# Altium footprint library Capacitors.PcbLib: 28 footprints (part 2 of 2)
Each footprint in its own frame and in the unit in brackets; x right, y up, seen from the top. Pads: shape width x height; smd on the part's side, far side on the other; paste and mask are expansions set on the pad; w line width, h text height; cw(c..) or ccw(c..) is an arc to the next point about the centre after c.
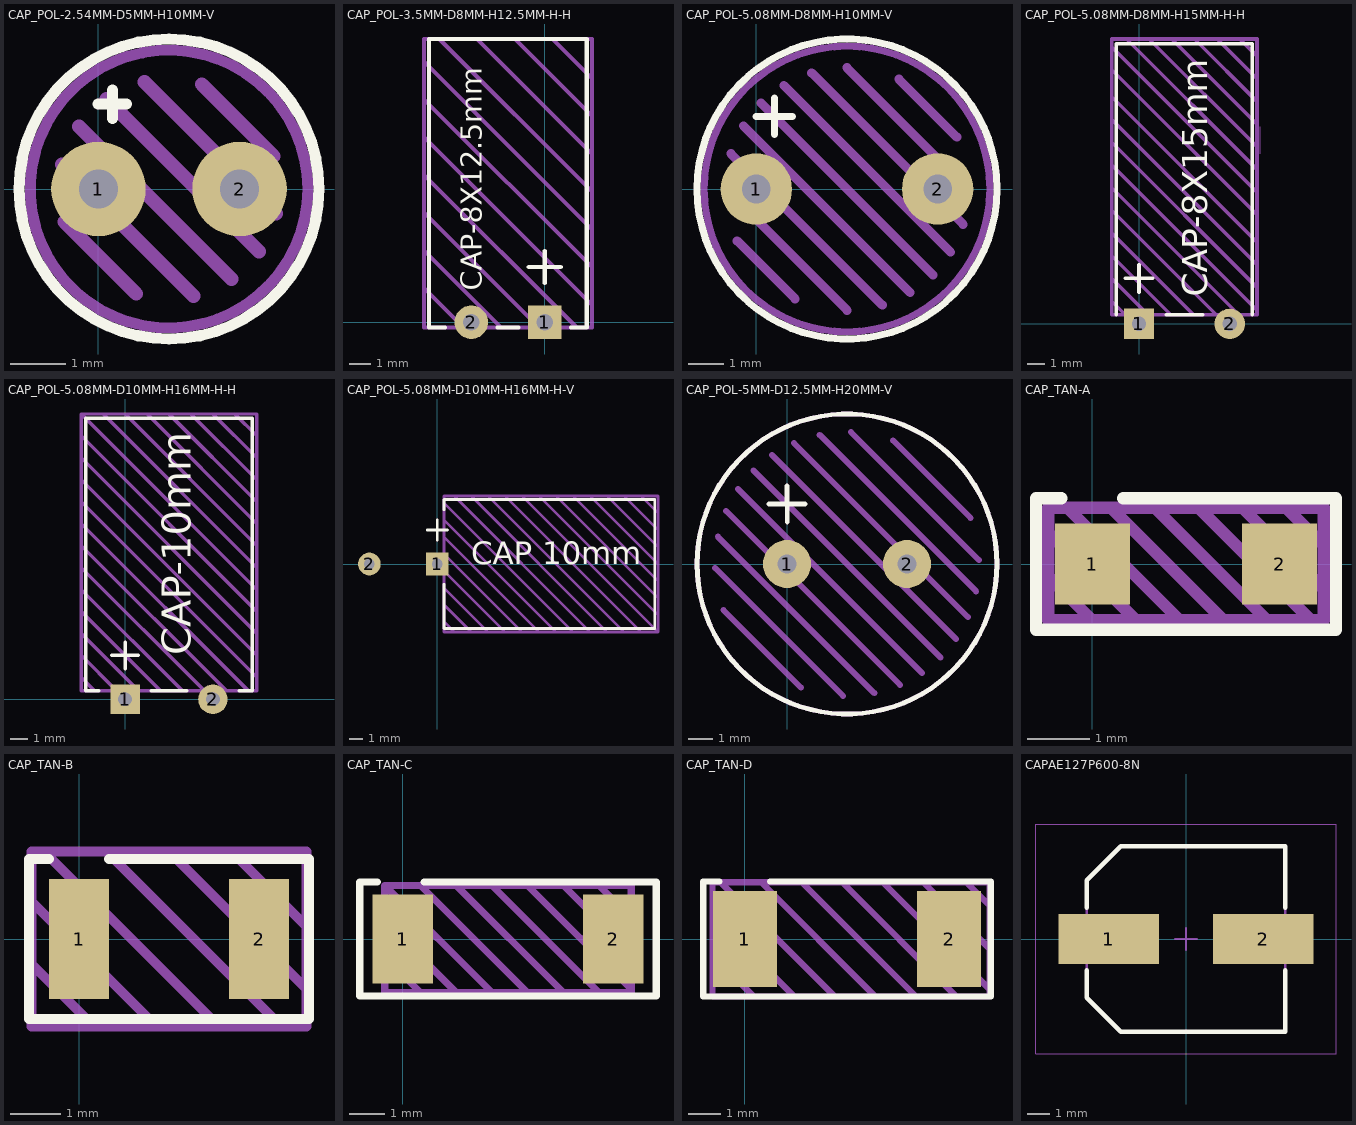
[diagram p1: the footprints below, top view; thin cyan lines are the x and y axes]

## CAP_POL-2.54MM-D5MM-H10MM-V [mm]
pads (2):
  round 1.7 hole 0.7: 1(0,0) 2(2.54,0)
Top Overlay:
  circle w0.2: c1.27,0 r2.7
  lines w0.2: -0.004,1.528 0.504,1.528 ; 0.25,1.274 0.25,1.782
Top Draw:
  circle w0.2: c1.27,0 r2.5
  lines w0.25: -0.655,0.44 1.71,-1.925 ; -0.615,-0.59 0.68,-1.885 ; -0.352,1.127 2.397,-1.622 ; 0.143,1.622 2.892,-1.127 ; 0.83,1.925 3.195,-0.44 ; 1.86,1.885 3.155,0.59
Top Info:
  text "'.Comment'" at -2.032,-4.318 h1
3D body: height 11, standoff 10.95, extent -1.016,-2.286 3.556,2.286
3D body: height 2.54, standoff 1.27, extent 3.848,-0.127 3.874,0.127
3D body: height 7.62, standoff 6.35, extent 3.848,-0.127 3.874,0.127
3D body: height 5.08, standoff 3.81, extent 3.848,-0.127 3.874,0.127
3D body: height 10.16, standoff 8.89, extent 3.848,-0.127 3.874,0.127
3D body: height 0.79, standoff -1.78, extent -0.254,-0.254 0.254,0.254
3D body: height 0.79, standoff -1.78, extent 2.286,-0.254 2.794,0.254
3D body: height 10.92, standoff 0.76, extent -1.27,-2.54 3.81,2.54
3D body: height 10.92, standoff 0.89, extent 3.81,-0.762 3.836,0.762
3D body: height 10.97, standoff 10.9, extent -1.03,-2.3 3.57,2.3

## CAP_POL-3.5MM-D8MM-H12.5MM-H-H [mm]
pads (2):
  rect 1.6x1.6 hole 0.8: 1(0,0)
  round 1.6 hole 0.8: 2(-3.5,0)
Top Overlay:
  lines w0.2: -4.75,-0.25 -5.51,-0.25 -5.51,13.5 2,13.5 2,-0.25 1.25,-0.25 ; -2.25,-0.25 -1.25,-0.25 ; -0.762,2.631 0.762,2.631 ; 0,1.869 0,2.631 0,3.393
  text "CAP-8X12.5mm" at -3,1.5 h1
Top Draw:
  lines w0.2: -5.75,1.625 -3.875,-0.25 ; -5.75,3.425 -2.075,-0.25 ; -5.75,5.225 -0.275,-0.25 ; -5.75,7.025 1.525,-0.25 ; -5.75,8.825 2.25,0.825 ; -5.75,10.625 2.25,2.625 ; -5.75,12.425 2.25,4.425 ; -5.025,13.5 2.25,6.225 ; -3.225,13.5 2.25,8.025 ; -1.425,13.5 2.25,9.825 ; 0.375,13.5 2.25,11.625 ; -5.75,-0.25 -5.75,13.5 2.25,13.5 2.25,-0.25 -5.75,-0.25
Top Info:
  text "'.Comment'" at -7.061,-2.629 h1.25
3D body "CAPPRD350W60D800H1250-HL-000-300-100.STEP": height 8.01, standoff -2.99, extent -5.748,-0.298 2.25,13.5

## CAP_POL-5.08MM-D8MM-H10MM-V [mm]
pads (2):
  round 2 hole 0.8: 1(0,0) 2(5.08,0)
Top Overlay:
  circle w0.2: c2.54,0 r4.2
  lines w0.2: 0.508,2.54 0.508,1.524 0.508,2.032 0,2.032 1.016,2.032
Top Draw:
  circle w0.2: c2.54,0 r4
  lines w0.25: -0.86,0.006 2.546,-3.4 ; -0.713,0.99 3.53,-3.253 ; -0.535,-1.45 1.09,-3.075 ; -0.362,1.771 4.311,-2.902 ; 0.136,2.404 4.944,-2.404 ; 0.769,2.902 5.442,-1.771 ; 1.55,3.253 5.793,-0.99 ; 2.534,3.4 5.94,-0.006 ; 3.99,3.075 5.615,1.45
Top Info:
  text "'.Comment'" at -1.778,-5.715 h1
3D body: height 2.54, standoff 1.27, extent 6.642,-0.127 6.668,0.127
3D body: height 7.62, standoff 6.35, extent 6.642,-0.127 6.668,0.127
3D body: height 5.08, standoff 3.81, extent 6.642,-0.127 6.668,0.127
3D body: height 12.7, standoff 11.43, extent 6.642,-0.127 6.668,0.127
3D body: height 10.16, standoff 8.89, extent 6.642,-0.127 6.668,0.127
3D body: height 0.79, standoff -1.78, extent -0.254,-0.254 0.254,0.254
3D body: height 0.79, standoff -1.78, extent 4.826,-0.254 5.334,0.254
3D body: height 13.61, standoff 13.56, extent -1.143,-3.683 6.223,3.683
3D body: height 13.46, standoff 0.76, extent -1.524,-4.064 6.604,4.064
3D body: height 13.33, standoff 0.89, extent 6.604,-1.016 6.629,1.016
3D body: height 13.59, standoff 13.44, extent -1.143,-3.683 6.223,3.683

## CAP_POL-5.08MM-D8MM-H15MM-H-H [mm]
pads (2):
  rect 1.7x1.7 hole 0.8: 1(0,0)
  round 1.7 hole 0.8: 2(5.08,0)
Top Overlay:
  lines w0.2: -1.27,0.508 -1.27,15.686 6.35,15.686 6.35,0.508 ; -0.762,2.54 0.762,2.54 ; 0,1.778 0,2.54 0,3.302 ; 1.524,0.508 3.556,0.508
  text "CAP-8X15mm" at 3.81,1.524 h1.4
Top Draw:
  lines w0.025: 6.785,9.529 6.785,11.03
  lines w0.2: -1.524,1.27 -0.762,0.508 ; -1.524,2.54 0.508,0.508 ; -1.524,3.81 1.778,0.508 ; -1.524,5.08 3.048,0.508 ; -1.524,6.35 4.318,0.508 ; -1.524,7.62 5.588,0.508 ; -1.524,8.89 6.604,0.762 ; -1.524,10.16 6.604,2.032 ; -1.524,11.43 6.604,3.302 ; -1.524,12.7 6.604,4.572 ; -1.493,14.193 6.604,6.096 ; -1.493,15.463 6.604,7.366 ; -0.666,15.906 6.604,8.636 ; -0.508,0.508 0.762,0.508 ; 0.604,15.906 6.604,9.906 ; 1.874,15.906 6.604,11.176 ; 2.032,0.508 3.81,0.508 ; 2.54,0.508 0.762,0.508 ; 3.302,0.508 6.604,0.508 ; 4.38,15.94 6.604,13.716 ; 4.572,0.508 6.604,0.508 ; 5.684,15.906 6.604,14.986 ; 0.762,0.508 -1.524,0.508 -1.524,15.94 6.604,15.94 6.604,0.508 ; 3.144,15.906 6.604,12.446 3.144,15.906
Top Info:
  text "'.Comment'" at -1.521,-2.602 h1.25
3D body: height 8, standoff 0, extent -1.46,0.588 6.54,15.588
3D body: height 6.53, standoff 1.47, extent 5.65,0.59 6.55,15.54
3D body: height 4.2, standoff 3.8, extent 6.525,6.003 6.575,9.503
3D body: height 7.7, standoff 3.7, extent 2.54,0.438 5.818,0.738
3D body: height 7.7, standoff 3.7, extent -0.738,0.438 2.54,0.738
3D body: height 4.3, standoff 0.3, extent 2.54,0.438 5.818,0.738
3D body: height 4.3, standoff 0.3, extent -0.738,0.438 2.54,0.738
3D body: height 7.9, standoff 0.1, extent -1.36,15.495 6.44,15.595
3D body: height 7.6, standoff 0.4, extent -1.06,15.41 6.14,15.71
3D body: height 8, standoff 0, extent -1.46,15.25 6.54,15.75
3D body: height 6.54, standoff 1.46, extent 4.729,15.475 6.551,15.775
3D body: height 6.54, standoff 1.46, extent 4.728,0.325 6.55,0.625
3D body: height 4.3, standoff 3.7, extent 4.781,-0.047 5.381,1.223
3D body: height 4.3, standoff 3.7, extent -0.3,-0.3 0.3,0.3
3D body: height 4.3, standoff 3.7, extent 4.78,-0.3 5.38,0.3
3D body: height 4, standoff -1.78, extent -0.3,-0.3 0.3,0.3
3D body: height 4, standoff -1.78, extent 4.78,-0.3 5.38,0.3
3D body: height 4.3, standoff 3.7, extent -0.3,0 0.3,1.27
3D body: height 4.2, standoff 3.8, extent 6.525,1.005 6.575,4.505
3D body: height 8, standoff 0, extent -1.469,0.35 6.531,0.85
3D body: height 4.2, standoff 3.8, extent 6.525,11.033 6.575,14.533

## CAP_POL-5.08MM-D10MM-H16MM-H-H [mm]
pads (2):
  rect 1.7x1.7 hole 0.8: 1(0,0)
  round 1.7 hole 0.8: 2(5.08,0)
Top Overlay:
  lines w0.2: -1.524,0.508 -2.286,0.508 -2.286,16.256 7.366,16.256 7.366,0.508 6.604,0.508 ; -0.762,2.54 0.762,2.54 ; 0,1.778 0,2.54 0,3.302 ; 1.524,0.508 3.556,0.508
  text "CAP-10mm" at 3.81,2.54 h1.7
Top Draw:
  lines w0.2: -2.54,1.27 -1.778,0.508 0,0.508 -0.508,0.508 -2.54,2.54 ; -2.54,3.81 0.762,0.508 2.54,0.508 ; -2.54,5.08 2.032,0.508 3.81,0.508 ; -2.54,6.35 3.302,0.508 5.08,0.508 4.572,0.508 -2.54,7.62 ; -2.54,8.89 5.842,0.508 7.62,0.508 ; -2.54,10.16 7.112,0.508 7.62,0.508 ; -2.54,11.43 7.62,1.27 7.62,0.508 ; -2.54,12.7 7.62,2.54 ; -2.54,13.97 7.62,3.81 7.62,5.08 -2.54,15.24 ; -1.27,16.51 7.62,7.62 ; 0,16.51 7.62,8.89 7.62,6.35 ; 1.27,16.51 7.62,10.16 ; 2.54,16.51 7.62,11.43 7.62,12.7 3.81,16.51 ; 5.08,16.51 7.62,13.97 ; 6.35,16.51 7.62,15.24 ; 7.62,6.985 7.62,7.62 ; -2.54,16.51 7.62,16.51 7.62,16.256 7.62,0.508 ; -2.54,16.51 -2.54,0.508 7.62,0.508 ; -2.54,16.51 7.62,6.35 ; 7.62,6.35 7.62,7.62
Top Info:
  text "'.Comment'" at -2.286,-2.54 h1.25
3D body: height 9, standoff 1, extent -1.46,0.483 6.54,0.783
3D body: height 5.2, standoff 4.8, extent 6.858,0.483 7.645,0.533
3D body: height 5.2, standoff 4.8, extent 7.595,10.16 7.645,15.24
3D body: height 9.5, standoff 0.5, extent -1.96,16.002 7.04,16.256
3D body: height 5.25, standoff 4.75, extent 4.827,-0.047 5.335,1.223
3D body: height 5.25, standoff 4.75, extent -0.254,-0.254 0.254,0.254
3D body: height 5.25, standoff 4.75, extent 4.826,-0.254 5.334,0.254
3D body: height 5, standoff -1.78, extent -0.254,-0.254 0.254,0.254
3D body: height 5, standoff -1.78, extent 4.826,-0.254 5.334,0.254
3D body: height 10, standoff 0, extent -2.46,0.588 7.54,16.088
3D body: height 5.25, standoff 4.75, extent -0.253,0 0.255,1.27
3D body: height 7, standoff 3, extent 7.366,0.588 7.62,16.002
3D body: height 7, standoff 3, extent 6.604,0.508 7.62,0.635
3D body: height 5.3, standoff 4.7, extent -1.524,16.231 6.604,16.281
3D body: height 9, standoff 1, extent 2.24,16.18 2.84,16.28
3D body: height 5.2, standoff 4.8, extent 7.595,0.508 7.645,2.54
3D body: height 5.2, standoff 4.8, extent 7.595,3.81 7.645,8.89

## CAP_POL-5.08MM-D10MM-H16MM-H-V [mm]
pads (2):
  rect 1.7x1.7 hole 0.8: 1(0,0)
  round 1.7 hole 0.8: 2(-5.08,0)
Top Overlay:
  lines w0.2: -0.762,2.54 0,2.54 0.762,2.54 ; 0,1.778 0,3.302 ; 0.508,-1.524 0.508,-4.826 16.256,-4.826 16.256,4.826 0.508,4.826 0.508,4.064
  text "CAP 10mm" at 2.54,0 h1.7
Top Draw:
  lines w0.2: 0.508,0 0.508,-1.778 3.81,-5.08 ; 0.508,1.27 0.508,-0.508 5.08,-5.08 ; 1.27,-5.08 0.508,-4.318 0.508,-2.54 0.508,-3.048 2.54,-5.08 ; 2.54,5.08 12.7,-5.08 ; 6.35,-5.08 0.508,0.762 0.508,2.54 0.508,2.032 7.62,-5.08 ; 6.985,5.08 7.62,5.08 ; 8.89,-5.08 0.508,3.302 0.508,5.08 ; 10.16,-5.08 0.508,4.572 0.508,5.08 ; 10.16,5.08 16.51,-1.27 ; 11.43,-5.08 1.27,5.08 0.508,5.08 ; 13.97,-5.08 3.81,5.08 5.08,5.08 15.24,-5.08 ; 13.97,5.08 16.51,2.54 ; 15.24,5.08 16.51,3.81 ; 16.51,-3.81 7.62,5.08 ; 16.51,-2.54 8.89,5.08 6.35,5.08 ; 16.51,0 11.43,5.08 12.7,5.08 16.51,1.27 ; 0.508,5.08 0.508,-5.08 16.51,-5.08 ; 0.508,5.08 16.256,5.08 16.51,5.08 16.51,-5.08 ; 6.35,5.08 16.51,-5.08 ; 6.35,5.08 7.62,5.08
Top Info:
  text "'.Comment'" at 0.635,-6.858 h1.25
3D body: height 9, standoff 1, extent 0.62,-4 0.92,4
3D body: height 5.2, standoff 4.8, extent 0.657,4.318 0.707,5.106
3D body: height 5.2, standoff 4.8, extent 10.334,5.055 15.414,5.106
3D body: height 9.5, standoff 0.5, extent 16.176,-4.5 16.43,4.5
3D body: height 2.71, standoff 2.21, extent -0.047,-0.253 1.223,0.255
3D body: height 7.75, standoff 7.25, extent -5.334,-0.253 -4.826,0.255
3D body: height 2.71, standoff 2.21, extent -0.254,-0.254 0.254,0.254
3D body: height 7.54, standoff -1.78, extent -5.334,-0.253 -4.826,0.255
3D body: height 2.46, standoff -1.78, extent -0.254,-0.254 0.254,0.254
3D body: height 10, standoff 0, extent 0.762,-5 16.262,5
3D body: height 7.75, standoff 7.25, extent -5.08,-0.253 0.92,0.255
3D body: height 7, standoff 3, extent 0.762,4.826 16.176,5.08
3D body: height 7, standoff 3, extent 0.682,3.81 0.809,5.08
3D body: height 5.3, standoff 4.7, extent 16.405,-4.064 16.455,4.064
3D body: height 9, standoff 1, extent 16.354,-0.3 16.454,0.3
3D body: height 5.2, standoff 4.8, extent 0.682,5.055 2.714,5.106
3D body: height 5.2, standoff 4.8, extent 3.984,5.055 9.064,5.106

## CAP_POL-5MM-D12.5MM-H20MM-V [mm]
pads (2):
  round 2 hole 0.8: 1(0,0) 2(5,0)
Top Overlay:
  circle w0.2: c2.5,0 r6.25
  lines w0.2: -0.75,2.5 0.75,2.5 ; 0,3.25 0.01,1.75
Top Draw:
  circle w0.2: c2.5,0 r6.25
  lines w0.25: -2.998,-0.159 2.341,-5.498 ; -2.881,1.138 3.638,-5.381 ; -2.656,-1.915 0.585,-5.156 ; -2.537,2.209 4.709,-5.037 ; -2.031,3.117 5.617,-4.531 ; -1.389,3.889 6.389,-3.889 ; -0.617,4.531 7.031,-3.117 ; 0.291,5.037 7.537,-2.209 ; 1.362,5.381 7.881,-1.138 ; 2.659,5.498 7.998,0.159 ; 4.415,5.156 7.656,1.915
Top Info:
  text "'.Comment'" at -3.873,-8.475 h1.5
3D body "CAP_POL-5MM-D12.5MM-H20MM-V.STEP": height 20, standoff -3, extent -3.745,-6.249 8.752,6.249

## CAP_TAN-A [mm]
pads (2):
  rect 1.2x1.3 smd: 1(0,0) 2(3,0)
Top Overlay:
  lines w0.2: -0.5,1.05 -0.9,1.05 -0.9,-1.05 3.9,-1.05 3.9,0.65 3.9,1.05 0.5,1.05
Top Draw:
  lines w0.2: -0.7,-0.2 0,-0.9 0.2,-0.9 ; -0.7,0.5 0.7,-0.9 ; -0.4,0.9 1.4,-0.9 1.5,-0.9 ; 0.3,0.9 2.1,-0.9 ; 1,0.9 2.8,-0.9 ; 1.7,0.9 3.5,-0.9 ; 2.4,0.9 3.7,-0.4 ; 3.1,0.9 3.7,0.3 ; -0.7,-0.9 3.7,-0.9 3.7,0.9 -0.7,0.9 -0.7,-0.9
Top Info:
  text "'.Comment'" at -1.686,-2.237 h0.75
3D body: height 0.8, standoff 0.05, extent -0.1,-0.625 -0.075,0.625
3D body: height 0.8, standoff 0.05, extent 3.125,-0.6 3.15,0.6
3D body: height 0.05, standoff 0, extent 2.326,-0.6 3.15,0.6
3D body: height 0.05, standoff 0, extent -0.1,-0.625 0.725,0.625
3D body: height 1.6, standoff 0.05, extent -0.075,-0.85 0.925,0.85
3D body: height 1.6, standoff 0.05, extent 0.925,-0.85 3.125,0.85

## CAP_TAN-B [mm]
pads (2):
  rect 1.2x2.4 smd: 1(0,0) 2(3.6,0)
Top Overlay:
  lines w0.2: -0.6,1.6 -1,1.6 -1,-1.6 4.6,-1.6 4.6,1.6 0.6,1.6
Top Draw:
  lines w0.2: -0.95,-0.5 0.3,-1.75 ; -0.95,0.75 1.55,-1.75 1.8,-1.75 ; -0.7,1.75 2.8,-1.75 3.05,-1.75 ; 0.55,1.75 4.05,-1.75 ; 1.8,1.75 4.55,-1 4.55,-1.75 ; 3.05,1.75 4.55,0.25 4.55,0 ; 4.55,-1.75 -0.95,-1.75 -0.95,1.75 4.55,1.75 4.55,-1.75
Top Info:
  text "'.Comment'" at -2.449,-3.283 h1
3D body: height 0.8, standoff 0.05, extent -0.056,-1.15 -0.031,1.15
3D body: height 1.7, standoff 0.05, extent -0.031,-1.5 1.244,1.5
3D body: height 1.7, standoff 0.05, extent 1.244,-1.5 3.619,1.5
3D body: height 0.05, standoff 0, extent -0.056,-1.15 0.856,1.15
3D body: height 0.05, standoff 0, extent 2.731,-1.15 3.644,1.15
3D body: height 0.8, standoff 0.05, extent 3.619,-1.15 3.644,1.15

## CAP_TAN-C [mm]
pads (2):
  rect 1.7x2.5 smd: 1(0,0) 2(5.9,0)
Top Overlay:
  lines w0.2: -0.7,1.6 -1.2,1.6 -1.2,-1.6 7.1,-1.6 7.1,1.6 0.6,1.6
Top Draw:
  lines w0.2: -0.5,-0.5 0.5,-1.5 ; -0.5,0.5 1.5,-1.5 1.6,-1.5 ; 0.5,1.5 3.5,-1.5 3.8,-1.5 ; 1.5,1.5 4.5,-1.5 4.6,-1.5 4.4,-1.5 ; 2.5,-1.5 -0.5,1.5 ; 2.5,1.5 5.5,-1.5 5.6,-1.5 ; 3.5,1.5 6.4,-1.4 6.4,-1.5 ; 4.5,1.5 6.4,-0.4 6.4,-1.1 ; 5.5,1.5 6.4,0.6 6.4,0.2 ; -0.5,1.5 6.4,1.5 6.4,-1.5 ; -0.5,1.5 -0.5,-1.5 6.4,-1.5
Top Info:
  text "'.Comment'" at -1.249,-3.183 h1
3D body: height 1, standoff 0.05, extent -0.2,-1.15 -0.075,1.15
3D body: height 0.05, standoff 0, extent -0.2,-1.15 0.9,1.15
3D body: height 0.05, standoff 0, extent 5,-1.15 6.1,1.15
3D body: height 1, standoff 0.05, extent 5.975,-1.15 6.1,1.15
3D body: height 1.7, standoff 0.05, extent -0.075,-1.6 1.3,1.7
3D body: height 1.7, standoff 0.05, extent 1.3,-1.6 5.975,1.7

## CAP_TAN-D [mm]
pads (2):
  rect 2x3 smd: 1(0,0) 2(6.4,0)
Top Overlay:
  lines w0.2: -0.8,1.8 -1.3,1.8 -1.3,-1.8 7.7,-1.8 7.7,1.8 0.8,1.8
Top Draw:
  lines w0.2: -1.016,-0.508 0.276,-1.8 0.508,-1.8 ; -1.016,0.762 1.546,-1.8 1.778,-1.8 ; -0.762,1.778 2.794,-1.778 ; 0.508,1.778 4.086,-1.8 4.318,-1.8 ; 1.778,1.778 5.334,-1.778 ; 3.048,1.778 6.626,-1.8 7.112,-1.8 ; 4.318,1.778 7.678,-1.582 ; 5.588,1.778 7.678,-0.312 ; 6.604,1.778 6.938,1.778 7.689,1.027 ; 7.678,-1.582 7.678,1.778 -1.016,1.778 -1.016,-1.778 -0.994,-1.8 7.656,-1.8 7.678,-1.778 7.678,-1.582
Top Info:
  text "'.Comment'" at -1.049,-3.383 h1
3D body: height 1.8, standoff 0.05, extent 6.5,-1.15 6.6,1.15
3D body: height 0.05, standoff 0, extent 5.631,-1.15 6.6,1.15
3D body: height 2.9, standoff 0.05, extent 1.5,-1.5 6.5,1.5
3D body: height 2.9, standoff 0.05, extent -0.1,-1.5 1.5,1.5
3D body: height 0.05, standoff 0, extent -0.2,-1.15 0.769,1.15
3D body: height 1.8, standoff 0.05, extent -0.2,-1.15 -0.1,1.15

## CAPAE127P600-8N [mm]
height 10.7
pads (2):
  rect 4.55x2.25 smd: 1(-3.5,0) 2(3.5,0)
Top Overlay:
  lines w0.2: -4.5,-1.425 -4.5,-2.663 -2.963,-4.2 4.5,-4.2 4.5,-1.425 ; -4.5,1.425 -4.5,2.662 -2.963,4.2 4.5,4.2 4.5,1.425
Top Draw:
  lines w0.1: -4.5,-2.663 -4.5,2.662 -2.963,4.2 4.5,4.2 4.5,-4.2 -2.963,-4.2 -4.5,-2.663
Top Courtyard:
  lines w0.05: -6.8,-5.2 6.8,-5.2 6.8,5.2 -6.8,5.2 -6.8,-5.2
  lines w0.1: -0.5,0 0.5,0 ; 0,-0.5 0,0.5
3D body "CAPAE127P600-8N.step": height 10.7, standoff 0, extent -4.7,-4.2 4.7,4.2